# Altium schematic symbol library TPS3106.SCHLIB: 1 symbol
Pins are listed as number, name and electrical type; pins without a type are passive.

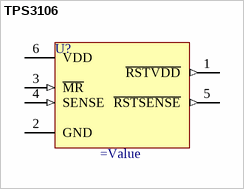
[diagram p0: symbol TPS3106]

## TPS3106
designator U?
pins: 1 ~{RSTVDD} (out) "The SW pin is the output of the internal power switch. Connect this pin to the inductor, catch diode and boost capacitor.", 2 GND, 3 ~{MR} (in), 4 SENSE (in), 5 ~{RSTSENSE} (out) "The BOOST pin is used to provide a drive voltage, higher than the input voltage, to the internal bipolar NPN power switch.", 6 VDD (power)